# Altium footprint library RF-IC.PcbLib: 2 footprints
Each footprint in its own frame and in the unit in brackets; x right, y up, seen from the top. Pads: shape width x height; smd on the part's side, far side on the other; paste and mask are expansions set on the pad; w line width, h text height; cw(c..) or ccw(c..) is an arc to the next point about the centre after c.
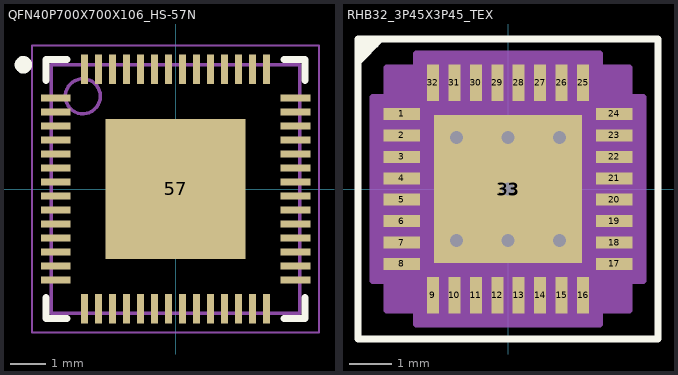
[diagram p0: the footprints below, top view; thin cyan lines are the x and y axes]

## QFN40P700X700X106_HS-57N [mm] "QFN, 56-Leads, Body 7.00x7.00mm, Pitch 0.40mm, Thermal Pad 4.00x4.00mm, IPC Medium Density"
height 1.06
pads (57):
  rect 0.85x0.2 smd mask+0.05: 1(-3.425,2.6) 2(-3.425,2.2) 3(-3.425,1.8) 4(-3.425,1.4) 5(-3.425,1) 6(-3.425,0.6) 7(-3.425,0.2) 8(-3.425,-0.2) 9(-3.425,-0.6) 10(-3.425,-1) 11(-3.425,-1.4) 12(-3.425,-1.8) 13(-3.425,-2.2) 14(-3.425,-2.6) 29(3.425,-2.6) 30(3.425,-2.2) 31(3.425,-1.8) 32(3.425,-1.4) 33(3.425,-1) 34(3.425,-0.6) 35(3.425,-0.2) 36(3.425,0.2) 37(3.425,0.6) 38(3.425,1) 39(3.425,1.4) 40(3.425,1.8) 41(3.425,2.2) 42(3.425,2.6)
  rect 0.2x0.85 smd mask+0.05: 15(-2.6,-3.425) 16(-2.2,-3.425) 17(-1.8,-3.425) 18(-1.4,-3.425) 19(-1,-3.425) 20(-0.6,-3.425) 21(-0.2,-3.425) 22(0.2,-3.425) 23(0.6,-3.425) 24(1,-3.425) 25(1.4,-3.425) 26(1.8,-3.425) 27(2.2,-3.425) 28(2.6,-3.425) 43(2.6,3.425) 44(2.2,3.425) 45(1.8,3.425) 46(1.4,3.425) 47(1,3.425) 48(0.6,3.425) 49(0.2,3.425) 50(-0.2,3.425) 51(-0.6,3.425) 52(-1,3.425) 53(-1.4,3.425) 54(-1.8,3.425) 55(-2.2,3.425) 56(-2.6,3.425)
  rect 4x4 smd mask+0.05: 57(0,0)
Top Overlay:
  circle w0.25: c-4.35,3.55 r0.125
  lines w0.2: -3.7,-3.1 -3.7,-3.7 -3.1,-3.7 ; -3.7,3.1 -3.7,3.7 -3.1,3.7 ; 3.1,-3.7 3.7,-3.7 3.7,-3.1 ; 3.1,3.7 3.7,3.7 3.7,3.1
Mechanical 13:
  circle w0.1: c-2.65,2.65 r0.5
  lines w0.1: -3.55,-3.55 -3.55,3.55 3.55,3.55 3.55,-3.55 -3.55,-3.55
Mechanical 15:
  lines w0.05: -4.1,-4.1 -4.1,4.1 4.1,4.1 4.1,-4.1 -4.1,-4.1
  lines w0.1: -0.5,0 0.5,0 ; 0,-0.5 0,0.5
3D body "QFN56_7X7_EXP.step": height 0.89, standoff 0, extent -3.537,-3.529 3.513,3.521

## RHB32_3P45X3P45_TEX [mm]
pads (34):
  rect 0.85x0.28 smd paste-0.14 mask+0: 1(-2.475,1.75) 2(-2.475,1.25) 3(-2.475,0.75) 4(-2.475,0.25) 5(-2.475,-0.25) 6(-2.475,-0.75) 7(-2.475,-1.25) 8(-2.475,-1.75) 17(2.475,-1.75) 18(2.475,-1.25) 19(2.475,-0.75) 20(2.475,-0.25) 21(2.475,0.25) 22(2.475,0.75) 23(2.475,1.25) 24(2.475,1.75)
  rect 0.28x0.85 smd paste-0.14 mask+0: 9(-1.75,-2.475) 10(-1.25,-2.475) 11(-0.75,-2.475) 12(-0.25,-2.475) 13(0.25,-2.475) 14(0.75,-2.475) 15(1.25,-2.475) 16(1.75,-2.475) 25(1.75,2.475) 26(1.25,2.475) 27(0.75,2.475) 28(0.25,2.475) 29(-0.25,2.475) 30(-0.75,2.475) 31(-1.25,2.475) 32(-1.75,2.475)
  round 0.6 hole 0.3 paste-2539.97 mask-0.254: 33(0,0)
  rect 3.45x3.45 smd paste-1.712 mask-1.714: 33(0,0)
via -1.2,1.2 diameter 0.6 hole 0.3
via 0,1.2 diameter 0.6 hole 0.3
via 1.2,1.2 diameter 0.6 hole 0.3
via 1.2,-1.2 diameter 0.6 hole 0.3
via 0,-1.2 diameter 0.6 hole 0.3
via -1.2,-1.2 diameter 0.6 hole 0.3
Top Overlay:
  lines w0.1: -3.48,2.87 -3.48,2.946 -2.972,3.454 ; -3.48,2.908 -3.48,3.004 -3.336,3.147 -3.336,3.255 -3.348,3.244 -3.348,3.216 -3.419,3.287 -3.419,3.419 -3.363,3.363 -3.363,3.231 ; -3.393,3.393 -3.393,3.262 -3.363,3.231 ; -3.283,3.2 -3.226,3.258 -3.226,3.368 ; -3.393,3.2 -3.279,3.315 -3.279,3.376 -3.2,3.454 -2.972,3.454 ; -3.393,3.2 -3.34,3.2 -3.226,3.315 -3.226,3.2 -3.226,3.429 -3.251,3.454 -3.393,3.312 -3.393,3.2 ; -3.393,3.2 -3.48,3.287 -3.383,3.383 -3.322,3.383 -3.322,3.5 -3.277,3.454 -2.972,3.454 ; -3.363,3.231 -3.48,3.114 -3.48,3.061 -3.31,3.231 -3.252,3.231 -3.14,3.343 -3.083,3.343 -3.058,3.368 -3.226,3.368 ; -3.363,3.231 -3.139,3.454 ; -3.226,3.368 -3.139,3.454 ; -3.226,3.368 -3.139,3.454 ; -3.139,3.454 -2.972,3.454
  lines w0.152: -3.5,-3.5 -3.5,3.5 3.5,3.5 3.5,-3.5 -3.5,-3.5
Top Paste:
  drawing of 25 lines, arcs and shapes, not listed
Mechanical 13:
  lines w0.025: -2.575,1.305 -1.305,2.575 ; -2.575,-2.575 2.575,-2.575 2.575,2.575 -2.575,2.575 -2.575,-2.575
  text "*" at -2.113,1.365 h1.27
Mechanical 15:
  region: -2.144,-2.829 -2.829,-2.829 -2.829,-2.144 -3.154,-2.144 -3.154,2.144 -2.829,2.144 -2.829,2.829 -2.144,2.829 -2.144,3.154 2.144,3.154 2.144,2.829 2.829,2.829 2.829,2.144 3.154,2.144 3.154,-2.144 2.829,-2.144 2.829,-2.829 2.144,-2.829 2.144,-3.154 -2.144,-3.154
  lines w0.152: -3.154,-2.144 -2.829,-2.144 -2.829,-2.829 -2.144,-2.829 -2.144,-3.154 2.144,-3.154 2.144,-2.829 2.829,-2.829 2.829,-2.144 3.154,-2.144 3.154,2.144 2.829,2.144 2.829,2.829 2.144,2.829 2.144,3.154 -2.144,3.154 -2.144,2.829 -2.829,2.829 -2.829,2.144 -3.154,2.144 -3.154,-2.144
3D body "RHB32_3P45X3P45_TEX.step": height 1.4, standoff 0, extent -2.626,-2.626 2.626,2.626